# Altium schematic symbol library ACAS Quad Resistor Array.Schlib: 1 symbol
Pins are listed as number, name and electrical type; pins without a type are passive.

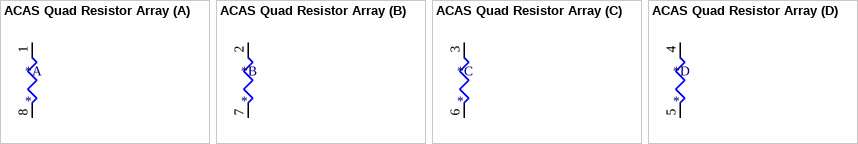
[diagram p0: symbol ACAS Quad Resistor Array]

## ACAS Quad Resistor Array
designator *
part A pins: 1, 8
part B pins: 2, 7
part C pins: 3, 6
part D pins: 4, 5